# Altium schematic symbol library max6070.SCHLIB: 1 symbol
Pins are listed as number, name and electrical type; pins without a type are passive.

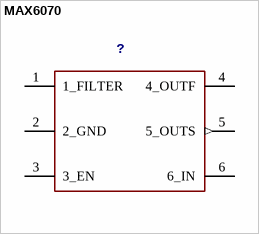
[diagram p0: symbol MAX6070]

## MAX6070
designator ?
footprint SOT23-6
pins: 1 1_FILTER, 2 2_GND (power), 3 3_EN, 4 4_OUTF, 5 5_OUTS (out), 6 6_IN